# Altium schematic symbol library Trans_50_15_15.SchLib: 1 symbol
Pins are listed as number, name and electrical type; pins without a type are passive.

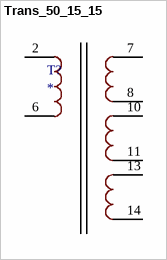
[diagram p0: symbol Trans_50_15_15]

## Trans_50_15_15
designator T?
pins: 2 "Termal Pad", 6 "Termal Pad", 7 "Termal Pad", 8 "Termal Pad", 10 "Termal Pad", 11 "Termal Pad", 13 "Termal Pad", 14 "Termal Pad"